# Altium footprint library PCB - BUTTONS - TE FSMSMTR.PCBLIB: 1 footprints
Each footprint in its own frame and in the unit in brackets; x right, y up, seen from the top. Pads: shape width x height; smd on the part's side, far side on the other; paste and mask are expansions set on the pad; w line width, h text height; cw(c..) or ccw(c..) is an arc to the next point about the centre after c.
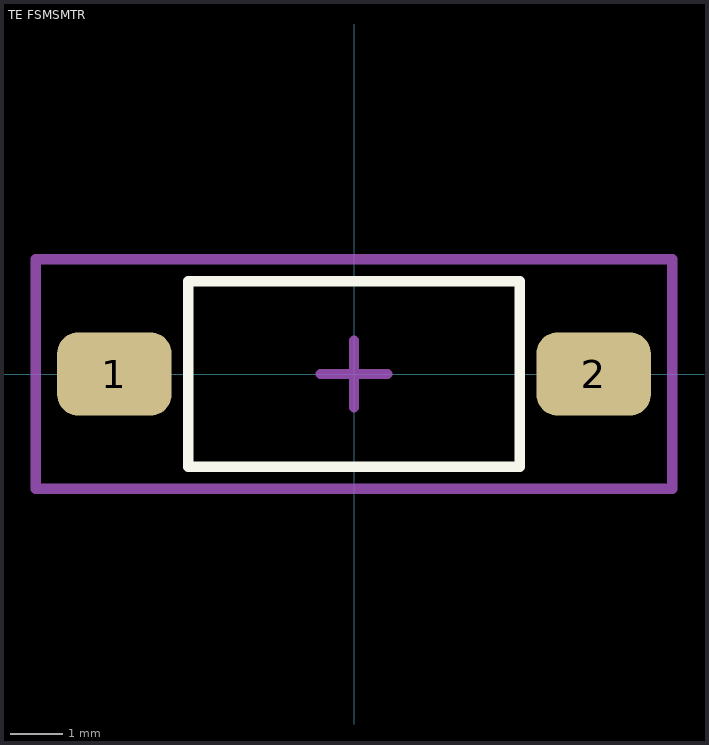
[diagram p0: the footprint, top view; thin cyan lines are the x and y axes]

## TE FSMSMTR [mm]
height 4.42
pads (2):
  rrect50% 2.19x1.6 smd: 1(-4.595,0) 2(4.595,0)
Top Overlay:
  lines w0.2: -3.175,-1.778 3.175,-1.778 3.175,1.778 -3.175,1.778 -3.175,-1.778
Mechanical 15:
  lines w0.2: -0.635,0 0.635,0 ; 0,-0.635 0,0.635 ; -6.1,-2.2 6.1,-2.2 6.1,2.2 -6.1,2.2 -6.1,-2.2
3D body "FSMSMTR.STEP": height 4.42, standoff 0, extent -4.985,-1.75 4.984,1.75